# Altium footprint library DEA162450BT2096A1H.PcbLib: 1 footprints
Each footprint in its own frame and in the unit in brackets; x right, y up, seen from the top. Pads: shape width x height; smd on the part's side, far side on the other; paste and mask are expansions set on the pad; w line width, h text height; cw(c..) or ccw(c..) is an arc to the next point about the centre after c.
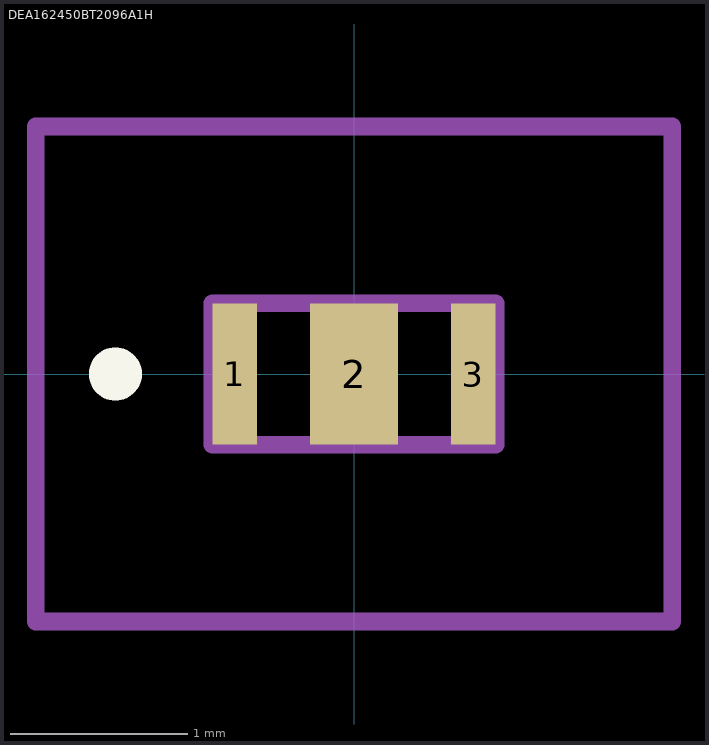
[diagram p0: the footprint, top view; thin cyan lines are the x and y axes]

## DEA162450BT2096A1H [mm]
pads (3):
  rect 0.25x0.8 smd: 1(-0.675,0) 3(0.675,0)
  rect 0.5x0.8 smd: 2(0,0)
Top Overlay:
  lines w0.2: -1.4,0 -1.4,0 ; -1.4,0 ccw(c-1.35,0) -1.3,0 ; -1.4,0 cw(c-1.35,0) -1.3,0 ; -1.4,0 -1.4,0 ; -1.4,0 ccw(c-1.35,0) -1.3,0 ; -1.3,0 -1.3,0
Mechanical 15:
  lines w0.1: -0.8,-0.4 0.8,-0.4 0.8,0.4 -0.8,0.4 -0.8,-0.4
Mechanical 20:
  lines w0.1: -1.8,-1.4 1.8,-1.4 1.8,1.4 -1.8,1.4 -1.8,-1.4
3D body "DEA162450BT-2096A1-H.stp": height 5.8, standoff -4.65, extent -10,-3.376 10,3.376